# EAGLE library part MCP3204 (library Tracksoar-Thermistor-Buzzer-Shield)
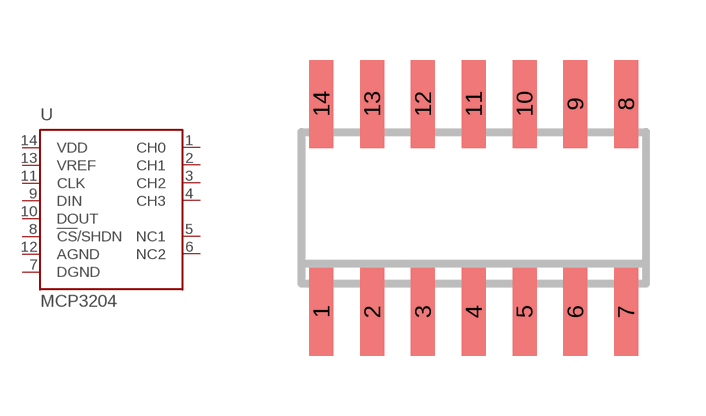
[diagram p4: symbol with the pads of SO-14; footprint SO-14]

Designator prefix U

## MCP3204  [SO-14]
1  CH0  in
2  CH1  in
3  CH2  in
4  CH3  in
5  NC1  nc
6  NC2  nc
7  DGND  in
8  !CS!/SHDN  in
9  DIN  in
10  DOUT  in
11  CLK  in
12  AGND  in
13  VREF  in
14  VDD  in

## Footprint SO-14 (pad centres in mm)
Small Outline Narrow Plastic Gull Wing 150-mil body, package type SL
smd 0.6 x 2.2: 1 -3.81,-2.6; 2 -2.54,-2.6; 3 -1.27,-2.6; 4 0,-2.6; 5 1.27,-2.6; 6 2.54,-2.6; 7 3.81,-2.6; 8 3.81,2.6; 9 2.54,2.6; 10 1.27,2.6; 11 0,2.6; 12 -1.27,2.6; 13 -2.54,2.6; 14 -3.81,2.6